# Altium footprint library Rotary_Encoder.PcbLib: 23 footprints (part 1 of 2)
Each footprint in its own frame and in the unit in brackets; x right, y up, seen from the top. Pads: shape width x height; smd on the part's side, far side on the other; paste and mask are expansions set on the pad; w line width, h text height; cw(c..) or ccw(c..) is an arc to the next point about the centre after c.
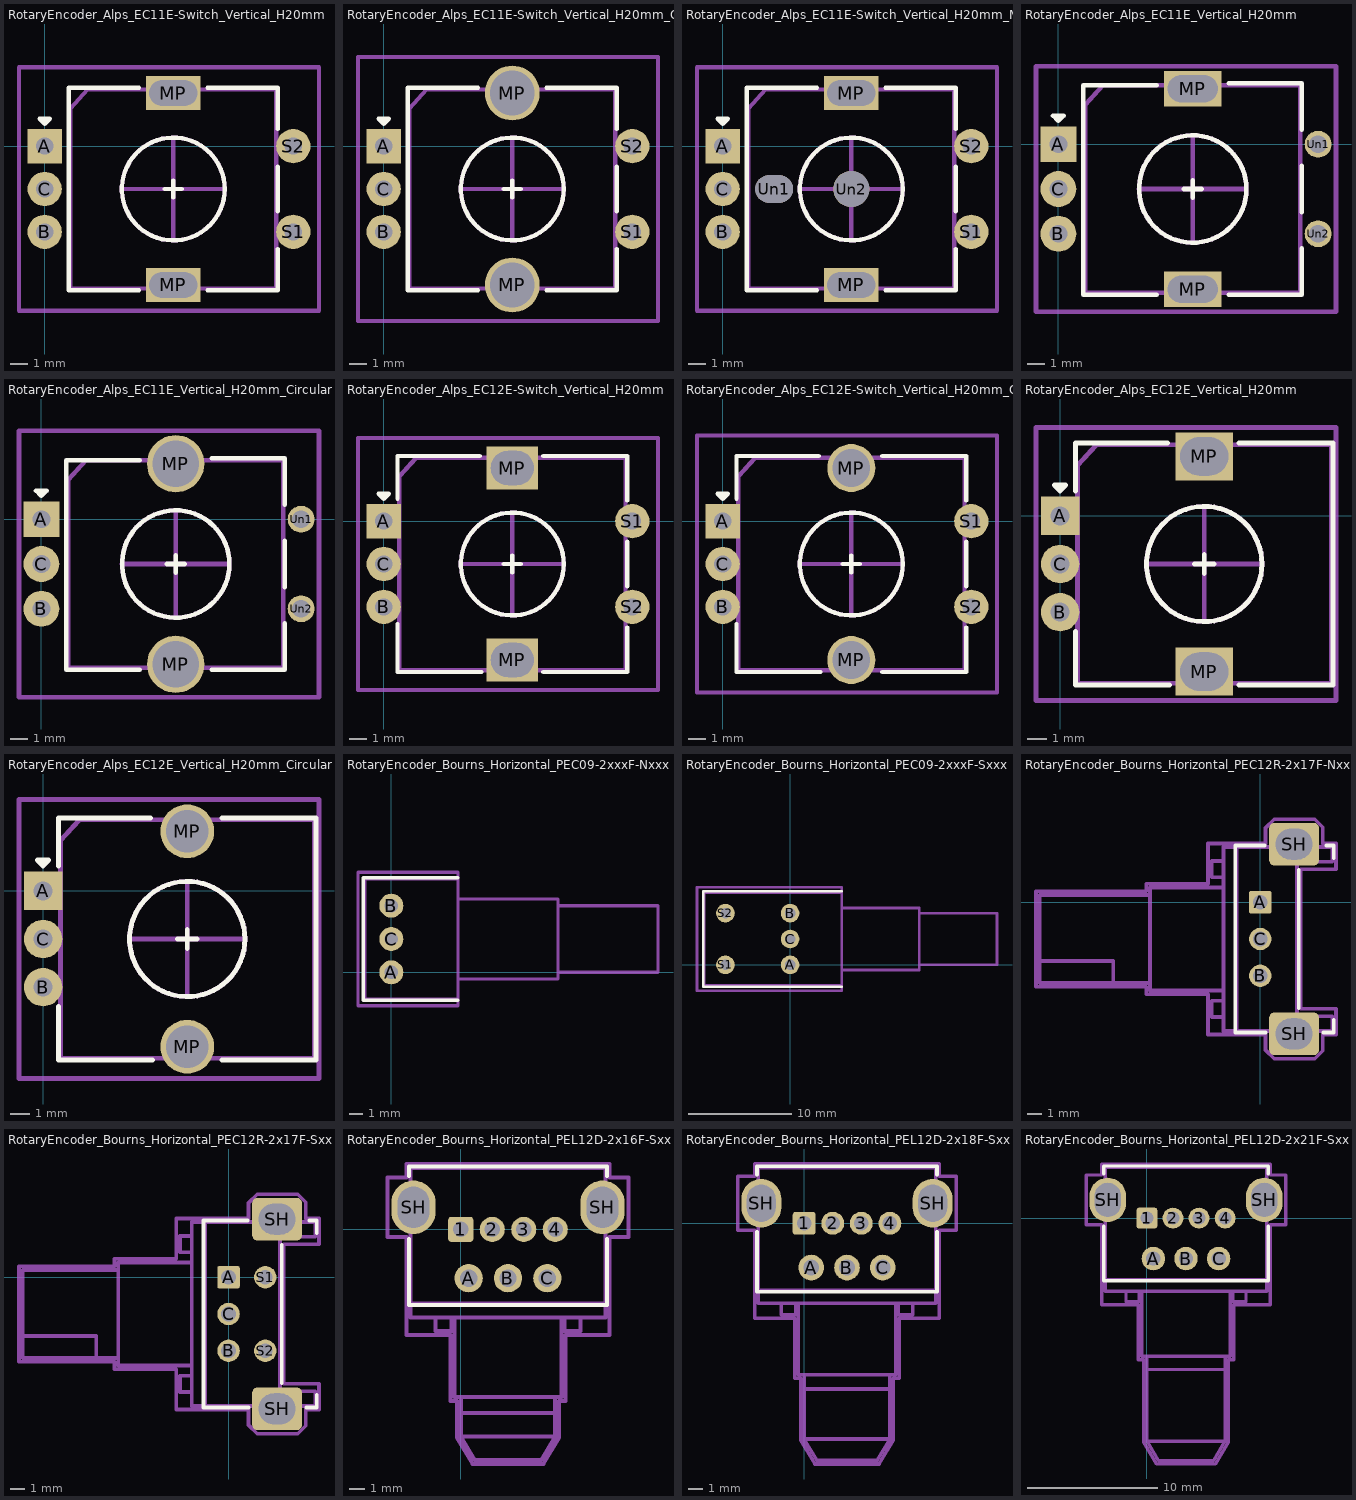
[diagram p0: the footprints below, top view; thin cyan lines are the x and y axes]

## RotaryEncoder_Alps_EC11E-Switch_Vertical_H20mm [mm]
pads (7):
  rect 2x2 hole 1: A(0,0)
  round 2 hole 1: B(0,-5) C(0,-2.5) S1(14.5,-5) S2(14.5,0)
  rect 3.2x2 hole 1.5 slot 2.8 at 0 deg: MP(7.5,-8.1) MP(7.5,3.1)
F.SilkS:
  circle w0.254: c7.5,-2.5 r3
  lines w0.254: 5.5,-8.4 1.4,-8.4 1.4,3.4 5.5,3.4 ; 7,-2.5 8,-2.5 ; 7.5,-3 7.5,-2 ; 9.5,-8.4 13.6,-8.4 13.6,-6 ; 9.5,3.4 13.6,3.4 13.6,1 ; 13.6,-3.8 13.6,-1.2 ; -0.3,1.6 0.3,1.6 0,1.3 -0.3,1.6
F.Fab:
  circle w0.254: c7.5,-2.5 r3
  lines w0.254: 4.5,-2.5 10.5,-2.5 ; 7.5,-5.5 7.5,0.5 ; 1.5,-8.3 1.5,2.2 2.5,3.3 13.5,3.3 13.5,-8.3 1.5,-8.3
  text "'.Designator'" at 7.053,-7.14 h1
F.CrtYd:
  lines w0.254: -1.5,-9.6 -1.5,4.6 16,4.6 16,-9.6 -1.5,-9.6

## RotaryEncoder_Alps_EC11E-Switch_Vertical_H20mm_CircularMountingHoles [mm]
pads (7):
  rect 2x2 hole 1: A(0,0)
  round 2 hole 1: B(0,-5) C(0,-2.5) S1(14.5,-5) S2(14.5,0)
  round 3.2 hole 2.6: MP(7.5,-8.1) MP(7.5,3.1)
F.SilkS:
  circle w0.254: c7.5,-2.5 r3
  lines w0.254: 5.5,-8.4 1.4,-8.4 1.4,3.4 5.5,3.4 ; 7,-2.5 8,-2.5 ; 7.5,-3 7.5,-2 ; 9.5,-8.4 13.6,-8.4 13.6,-6 ; 9.5,3.4 13.6,3.4 13.6,1 ; 13.6,-3.8 13.6,-1.2 ; -0.3,1.6 0.3,1.6 0,1.3 -0.3,1.6
F.Fab:
  circle w0.254: c7.5,-2.5 r3
  lines w0.254: 4.5,-2.5 10.5,-2.5 ; 7.5,-5.5 7.5,0.5 ; 1.5,-8.3 1.5,2.2 2.5,3.3 13.5,3.3 13.5,-8.3 1.5,-8.3
  text "'.Designator'" at 7.053,-7.14 h1
F.CrtYd:
  lines w0.254: -1.5,-10.2 -1.5,5.2 16,5.2 16,-10.2 -1.5,-10.2

## RotaryEncoder_Alps_EC11E-Switch_Vertical_H20mm_MountingHoles [mm]
pads (9):
  rect 2x2 hole 1: A(0,0)
  round 2 hole 1: B(0,-5) C(0,-2.5) S1(14.5,-5) S2(14.5,0)
  rect 3.2x2 hole 1.5 slot 2.8 at 0 deg: MP(7.5,-8.1) MP(7.5,3.1)
  rrect100% 2.2x1.6 hole 1.6 slot 2.2 at 0 deg: Un1(3,-2.5)
  round 2.1 hole 2.1: Un2(7.5,-2.5)
F.SilkS:
  circle w0.254: c7.5,-2.5 r3
  lines w0.254: 5.5,-8.4 1.4,-8.4 1.4,3.4 5.5,3.4 ; 9.5,-8.4 13.6,-8.4 13.6,-6 ; 9.5,3.4 13.6,3.4 13.6,1 ; 13.6,-3.8 13.6,-1.2 ; -0.3,1.6 0.3,1.6 0,1.3 -0.3,1.6
F.Fab:
  circle w0.254: c7.5,-2.5 r3
  lines w0.254: 4.5,-2.5 10.5,-2.5 ; 7.5,-5.5 7.5,0.5 ; 1.5,-8.3 1.5,2.2 2.5,3.3 13.5,3.3 13.5,-8.3 1.5,-8.3
  text "'.Designator'" at 7.053,-7.14 h1
F.CrtYd:
  lines w0.254: -1.5,-9.6 -1.5,4.6 16,4.6 16,-9.6 -1.5,-9.6

## RotaryEncoder_Alps_EC11E_Vertical_H20mm [mm]
pads (7):
  rect 2x2 hole 1: A(0,0)
  round 2 hole 1: B(0,-5) C(0,-2.5)
  rect 3.2x2 hole 1.5 slot 2.8 at 0 deg: MP(7.5,-8.1) MP(7.5,3.1)
  round 1.5 hole 1: Un1(14.5,0) Un2(14.5,-5)
F.SilkS:
  circle w0.254: c7.5,-2.5 r3
  lines w0.254: 5.5,-8.4 1.4,-8.4 1.4,3.3 5.5,3.3 ; 7,-2.5 8,-2.5 ; 7.5,-3 7.5,-2 ; 9.5,-8.4 13.6,-8.4 13.6,-5.8 ; 9.5,3.4 13.6,3.4 13.6,0.8 ; 13.6,-3.8 13.6,-1.2 ; -0.3,1.6 0.3,1.6 0,1.3 -0.3,1.6
F.Fab:
  circle w0.254: c7.5,-2.5 r3
  lines w0.254: 4.5,-2.5 10.5,-2.5 ; 7.5,-5.5 7.5,0.5 ; 1.5,-8.3 1.5,2.2 2.5,3.3 13.5,3.3 13.5,-8.3 1.5,-8.3
  text "'.Designator'" at 7.053,-7.14 h1
F.CrtYd:
  lines w0.254: -1.25,-9.35 -1.25,4.35 15.5,4.35 15.5,-9.35 -1.25,-9.35

## RotaryEncoder_Alps_EC11E_Vertical_H20mm_CircularMountingHoles [mm]
pads (7):
  rect 2x2 hole 1: A(0,0)
  round 2 hole 1: B(0,-5) C(0,-2.5)
  round 3.2 hole 2.6: MP(7.5,-8.1) MP(7.5,3.1)
  round 1.5 hole 1: Un1(14.5,0) Un2(14.5,-5)
F.SilkS:
  circle w0.254: c7.5,-2.5 r3
  lines w0.254: 5.5,-8.4 1.4,-8.4 1.4,3.3 5.5,3.3 ; 7,-2.5 8,-2.5 ; 7.5,-3 7.5,-2 ; 9.5,-8.4 13.6,-8.4 13.6,-5.8 ; 9.5,3.4 13.6,3.4 13.6,0.8 ; 13.6,-3.8 13.6,-1.2 ; -0.3,1.6 0.3,1.6 0,1.3 -0.3,1.6
F.Fab:
  circle w0.254: c7.5,-2.5 r3
  lines w0.254: 4.5,-2.5 10.5,-2.5 ; 7.5,-5.5 7.5,0.5 ; 1.5,-8.3 1.5,2.2 2.5,3.3 13.5,3.3 13.5,-8.3 1.5,-8.3
  text "'.Designator'" at 7.053,-7.14 h1
F.CrtYd:
  lines w0.254: -1.25,-9.95 -1.25,4.95 15.5,4.95 15.5,-9.95 -1.25,-9.95

## RotaryEncoder_Alps_EC12E-Switch_Vertical_H20mm [mm]
pads (7):
  rect 2x2 hole 1: A(0,0)
  round 2 hole 1: B(0,-5) C(0,-2.5) S1(14.5,0) S2(14.5,-5)
  rect 3x2.5 hole 2 slot 2.5 at 0 deg: MP(7.5,-8.1) MP(7.5,3.1)
F.SilkS:
  circle w0.254: c7.5,-2.5 r3
  lines w0.254: 0.8,-6 0.8,-8.8 5.7,-8.8 ; 0.8,1.3 0.8,3.8 5.6,3.8 ; 7,-2.5 8,-2.5 ; 7.5,-3 7.5,-2 ; 9.3,-8.8 14.2,-8.8 14.2,-6.2 ; 9.3,3.8 14.2,3.8 14.2,1.2 ; 14.2,-3.8 14.2,-1.2 ; -0.3,1.6 0.3,1.6 0,1.3 -0.3,1.6
F.Fab:
  circle w0.254: c7.5,-2.5 r3
  lines w0.254: 4.5,-2.5 10.5,-2.5 ; 7.5,-5.5 7.5,0.5 ; 0.9,-8.7 0.9,2.6 1.9,3.7 14.1,3.7 14.1,-8.7 0.9,-8.7
  text "'.Designator'" at 7.453,-7.44 h1
F.CrtYd:
  lines w0.254: -1.5,-9.85 -1.5,4.85 16,4.85 16,-9.85 -1.5,-9.85

## RotaryEncoder_Alps_EC12E-Switch_Vertical_H20mm_CircularMountingHoles [mm]
pads (7):
  rect 2x2 hole 1: A(0,0)
  round 2 hole 1: B(0,-5) C(0,-2.5) S1(14.5,0) S2(14.5,-5)
  round 2.8 hole 2.2: MP(7.5,-8.1) MP(7.5,3.1)
F.SilkS:
  circle w0.254: c7.5,-2.5 r3
  lines w0.254: 0.8,-6 0.8,-8.8 5.7,-8.8 ; 0.8,1.3 0.8,3.8 5.6,3.8 ; 7,-2.5 8,-2.5 ; 7.5,-3 7.5,-2 ; 9.3,-8.8 14.2,-8.8 14.2,-6.2 ; 9.3,3.8 14.2,3.8 14.2,1.2 ; 14.2,-3.8 14.2,-1.2 ; -0.3,1.6 0.3,1.6 0,1.3 -0.3,1.6
F.Fab:
  circle w0.254: c7.5,-2.5 r3
  lines w0.254: 4.5,-2.5 10.5,-2.5 ; 7.5,-5.5 7.5,0.5 ; 0.9,-8.7 0.9,2.6 1.9,3.7 14.1,3.7 14.1,-8.7 0.9,-8.7
  text "'.Designator'" at 7.453,-7.44 h1
F.CrtYd:
  lines w0.254: -1.5,-10 -1.5,5 16,5 16,-10 -1.5,-10

## RotaryEncoder_Alps_EC12E_Vertical_H20mm [mm]
pads (5):
  rect 2x2 hole 1: A(0,0)
  round 2 hole 1: B(0,-5) C(0,-2.5)
  rect 3x2.5 hole 2 slot 2.5 at 0 deg: MP(7.5,-8.1) MP(7.5,3.1)
F.SilkS:
  circle w0.254: c7.5,-2.5 r3
  lines w0.254: 0.8,-6 0.8,-8.8 5.7,-8.8 ; 0.8,1.3 0.8,3.8 5.6,3.8 ; 7,-2.5 8,-2.5 ; 7.5,-3 7.5,-2 ; 9.3,-8.8 14.2,-8.8 14.2,3.8 9.3,3.8 ; -0.3,1.6 0.3,1.6 0,1.3 -0.3,1.6
F.Fab:
  circle w0.254: c7.5,-2.5 r3
  lines w0.254: 4.5,-2.5 10.5,-2.5 ; 7.5,-5.5 7.5,0.5 ; 0.9,-8.7 0.9,2.6 1.9,3.7 14.1,3.7 14.1,-8.7 0.9,-8.7
  text "'.Designator'" at 7.453,-7.44 h1
F.CrtYd:
  lines w0.254: -1.25,-9.6 -1.25,4.6 14.35,4.6 14.35,-9.6 -1.25,-9.6

## RotaryEncoder_Alps_EC12E_Vertical_H20mm_CircularMountingHoles [mm]
pads (5):
  rect 2x2 hole 1: A(0,0)
  round 2 hole 1: B(0,-5) C(0,-2.5)
  round 2.8 hole 2.2: MP(7.5,-8.1) MP(7.5,3.1)
F.SilkS:
  circle w0.254: c7.5,-2.5 r3
  lines w0.254: 0.8,-6 0.8,-8.8 5.7,-8.8 ; 0.8,1.3 0.8,3.8 5.6,3.8 ; 7,-2.5 8,-2.5 ; 7.5,-3 7.5,-2 ; 9.3,-8.8 14.2,-8.8 14.2,3.8 9.3,3.8 ; -0.3,1.6 0.3,1.6 0,1.3 -0.3,1.6
F.Fab:
  circle w0.254: c7.5,-2.5 r3
  lines w0.254: 4.5,-2.5 10.5,-2.5 ; 7.5,-5.5 7.5,0.5 ; 0.9,-8.7 0.9,2.6 1.9,3.7 14.1,3.7 14.1,-8.7 0.9,-8.7
  text "'.Designator'" at 7.453,-7.44 h1
F.CrtYd:
  lines w0.254: -1.25,-9.75 -1.25,4.75 14.35,4.75 14.35,-9.75 -1.25,-9.75

## RotaryEncoder_Bourns_Horizontal_PEC09-2xxxF-Nxxxx [mm]
pads (3):
  round 1.8 hole 1: A(0,0) B(0,5) C(0,2.5)
F.SilkS:
  lines w0.254: 5,-2.1 -2.1,-2.1 -2.1,7.1 5,7.1
F.Fab:
  lines w0.254: 5,-0.5 12.5,-0.5 12.5,5.5 5,5.5 ; 12.5,0 20,0 20,5 12.5,5 ; -2,-2 -2,7 5,7 5,-2 -2,-2
  text "'.Designator'" at 2.84,-1.547 h1
F.CrtYd:
  lines w0.254: -2.5,-2.5 -2.5,7.5 5,7.5 5,-2.5 -2.5,-2.5

## RotaryEncoder_Bourns_Horizontal_PEC09-2xxxF-Sxxxx [mm]
pads (5):
  round 1.8 hole 1: A(0,0) B(0,5) C(0,2.5) S1(-6.25,0) S2(-6.25,5)
F.SilkS:
  lines w0.254: 5,-2.1 -8.4,-2.1 -8.4,7.1 5,7.1
F.Fab:
  lines w0.254: 5,-0.5 12.5,-0.5 12.5,5.5 5,5.5 ; 12.5,0 20,0 20,5 12.5,5 ; -8.3,-2 -8.3,7 5,7 5,-2 -8.3,-2
  text "'.Designator'" at 2.84,-1.547 h1
F.CrtYd:
  lines w0.254: -9,-2.5 -9,7.5 5,7.5 5,-2.5 -9,-2.5

## RotaryEncoder_Bourns_Horizontal_PEC12R-2x17F-Nxxxx [mm]
pads (5):
  rrect16% 1.524x1.524 hole 1: A(0,0)
  round 1.524 hole 1: B(0,-5) C(0,-2.5)
  rrect25% 3.4x2.9 hole 2.1 slot 2.5 at 0 deg: SH(2.3,-8.95) SH(2.3,3.95)
F.SilkS:
  lines w0.254: 0.3,3.85 -1.7,3.85 -1.7,-8.85 0.35,-8.85 ; 2.61,-7.2 2.61,2.2 ; 4.3,-8.85 5,-8.85 5,-8 ; 4.5,3.85 5,3.85 5,3
F.Fab:
  lines w0.254: -15,-4 -10,-4 -10,-5.5 ; -7.5,-5.5 -15,-5.5 -15,0.5 -7.5,0.5 ; -2.5,-7.8 -3.3,-7.8 -3.3,-6.7 -2.5,-6.7 ; -2.5,-6 -7.5,-6 -7.5,1 -2.5,1 ; -2.5,1.7 -3.3,1.7 -3.3,2.8 -2.5,2.8 ; -1.6,-8.75 -1.6,3.75 ; 4.9,3.7 4.9,2.75 2.5,2.75 2.5,-7.75 4.9,-7.75 4.9,-8.75 -2.5,-8.75 -2.5,3.75 4.9,3.75
  text "'.Designator'" at 0.79,-6.547 h1
F.CrtYd:
  lines w0.254: -15.25,-5.75 -15.25,0.75 -7.75,0.75 -7.75,1.25 -3.55,1.25 -3.55,4 0.35,4 0.35,5.05 0.95,5.65 3.7,5.65 4.25,5.1 4.25,4 5.15,4 5.15,2.25 2.75,2.25 2.75,-7.25 5.15,-7.25 5.15,-9 4.25,-9 4.25,-10.1 3.7,-10.65 0.95,-10.65 0.35,-10.05 0.35,-9 -3.55,-9 -3.55,-6.25 -7.75,-6.25 -7.75,-5.75 -15.25,-5.75

## RotaryEncoder_Bourns_Horizontal_PEC12R-2x17F-Sxxxx [mm]
pads (7):
  rrect16% 1.524x1.524 hole 1: A(0,0)
  round 1.524 hole 1: B(0,-5) C(0,-2.5) S1(2.5,0) S2(2.5,-5)
  rrect25% 3.4x2.9 hole 2.1 slot 2.5 at 0 deg: SH(3.3,-8.95) SH(3.3,3.95)
F.SilkS:
  lines w0.254: 1.3,3.85 -1.7,3.85 -1.7,-8.85 1.35,-8.85 ; 3.61,-7.2 3.61,2.2 ; 5.3,-8.85 6,-8.85 6,-8 ; 5.5,3.85 6,3.85 6,3
F.Fab:
  lines w0.254: -14,-4 -9,-4 -9,-5.5 ; -7.5,-5.5 -14,-5.5 -14,0.5 -7.5,0.5 ; -2.5,-7.8 -3.3,-7.8 -3.3,-6.7 -2.5,-6.7 ; -2.5,-6 -7.5,-6 -7.5,1 -2.5,1 ; -2.5,1.7 -3.3,1.7 -3.3,2.8 -2.5,2.8 ; -1.6,-8.75 -1.6,3.75 ; 5.9,3.7 5.9,2.75 3.5,2.75 3.5,-7.75 5.9,-7.75 5.9,-8.75 -2.5,-8.75 -2.5,3.75 5.9,3.75
  text "'.Designator'" at 1.79,-6.547 h1
F.CrtYd:
  lines w0.254: -14.25,-5.75 -14.25,0.75 -7.75,0.75 -7.75,1.25 -3.55,1.25 -3.55,4 1.35,4 1.35,5.05 1.95,5.65 4.7,5.65 5.25,5.1 5.25,4 6.15,4 6.15,2.25 3.75,2.25 3.75,-7.25 6.15,-7.25 6.15,-9 5.25,-9 5.25,-10.1 4.7,-10.65 1.95,-10.65 1.35,-10.05 1.35,-9 -3.55,-9 -3.55,-6.25 -7.75,-6.25 -7.75,-5.75 -14.25,-5.75

## RotaryEncoder_Bourns_Horizontal_PEL12D-2x16F-Sxxxx [mm]
pads (9):
  rrect25% 1.6x1.6 hole 1: 1(0,0)
  round 1.6 hole 1: 2(2,0) 3(4,0) 4(6,0)
  round 1.8 hole 1.1: A(0.5,-3.1) B(3,-3.1) C(5.5,-3.1)
  rrect100% 2.8x3.4 hole 2 slot 2.6 at 90 deg: SH(-3,1.4) SH(9,1.4)
F.SilkS:
  lines w0.254: -3.3,-0.6 -3.3,-4.8 9.3,-4.8 9.3,-0.6 ; -3.3,3.4 -3.3,4 9.3,4 9.3,3.4
F.Fab:
  lines w0.254: -3.2,-4.7 9.2,-4.7 ; -1.6,-5.65 -1.6,-6.45 -0.6,-6.45 -0.6,-5.65 ; -0.4,-5.65 -0.4,-10.65 6.4,-10.65 6.4,-5.65 ; 0,-11.65 6,-11.65 ; 0,-10.65 0,-13.15 ; 6,-10.65 6,-13.15 ; 6.6,-5.65 6.6,-6.45 7.6,-6.45 7.6,-5.65 ; 0,-13.15 0.9,-14.65 5.1,-14.65 6,-13.15 ; 0,-13.15 6,-13.15 ; -3.2,-5.6 -3.2,3.9 9.2,3.9 9.2,-5.6 -3.2,-5.6
  text "'.Designator'" at -1.047,0.46 h1
F.CrtYd:
  lines w0.254: -4.65,-0.5 -4.65,3.3 -3.45,3.3 -3.45,4.15 9.45,4.15 9.45,3.3 10.65,3.3 10.65,-0.5 9.45,-0.5 9.45,-6.7 6.65,-6.7 6.65,-10.9 6.25,-10.9 6.25,-13.2 5.25,-14.9 0.75,-14.9 -0.25,-13.2 -0.25,-10.9 -0.65,-10.9 -0.65,-6.7 -3.45,-6.7 -3.45,-0.5 -4.65,-0.5

## RotaryEncoder_Bourns_Horizontal_PEL12D-2x18F-Sxxxx [mm]
pads (9):
  rrect25% 1.6x1.6 hole 1: 1(0,0)
  round 1.6 hole 1: 2(2,0) 3(4,0) 4(6,0)
  round 1.8 hole 1.1: A(0.5,-3.1) B(3,-3.1) C(5.5,-3.1)
  rrect100% 2.8x3.4 hole 2 slot 2.6 at 90 deg: SH(-3,1.4) SH(9,1.4)
F.SilkS:
  lines w0.254: -3.3,-0.6 -3.3,-4.8 9.3,-4.8 9.3,-0.6 ; -3.3,3.4 -3.3,4 9.3,4 9.3,3.4
F.Fab:
  lines w0.254: -3.2,-4.7 9.2,-4.7 ; -1.6,-5.6 -1.6,-6.4 -0.6,-6.4 -0.6,-5.6 ; -0.4,-5.6 -0.4,-10.6 6.4,-10.6 6.4,-5.6 ; 0,-11.6 6,-11.6 ; 0,-10.6 0,-15.1 ; 6,-10.6 6,-15.1 ; 6.6,-5.6 6.6,-6.4 7.6,-6.4 7.6,-5.6 ; 0,-15.1 0.9,-16.6 5.1,-16.6 6,-15.1 ; 0,-15.1 6,-15.1 ; -3.2,-5.6 -3.2,3.9 9.2,3.9 9.2,-5.6 -3.2,-5.6
  text "'.Designator'" at -1.047,0.46 h1
F.CrtYd:
  lines w0.254: -4.65,-0.5 -4.65,3.3 -3.45,3.3 -3.45,4.15 9.45,4.15 9.45,3.3 10.65,3.3 10.65,-0.5 9.45,-0.5 9.45,-6.65 6.65,-6.65 6.65,-10.85 6.25,-10.85 6.25,-15.15 5.25,-16.85 0.75,-16.85 -0.25,-15.15 -0.25,-10.85 -0.65,-10.85 -0.65,-6.65 -3.45,-6.65 -3.45,-0.5 -4.65,-0.5

## RotaryEncoder_Bourns_Horizontal_PEL12D-2x21F-Sxxxx [mm]
pads (9):
  rrect25% 1.6x1.6 hole 1: 1(0,0)
  round 1.6 hole 1: 2(2,0) 3(4,0) 4(6,0)
  round 1.8 hole 1.1: A(0.5,-3.1) B(3,-3.1) C(5.5,-3.1)
  rrect100% 2.8x3.4 hole 2 slot 2.6 at 90 deg: SH(-3,1.4) SH(9,1.4)
F.SilkS:
  lines w0.254: -3.3,-0.6 -3.3,-4.8 9.3,-4.8 9.3,-0.6 ; -3.3,3.4 -3.3,4 9.3,4 9.3,3.4
F.Fab:
  lines w0.254: -3.2,-4.7 9.2,-4.7 ; -1.6,-5.6 -1.6,-6.4 -0.6,-6.4 -0.6,-5.6 ; -0.4,-5.6 -0.4,-10.6 6.4,-10.6 6.4,-5.6 ; 0,-11.6 6,-11.6 ; 0,-10.6 0,-17.1 ; 6,-10.6 6,-17.1 ; 6.6,-5.6 6.6,-6.4 7.6,-6.4 7.6,-5.6 ; 0,-17.1 0.9,-18.6 5.1,-18.6 6,-17.1 ; 0,-17.1 6,-17.1 ; -3.2,-5.6 -3.2,3.9 9.2,3.9 9.2,-5.6 -3.2,-5.6
  text "'.Designator'" at -1.047,0.46 h1
F.CrtYd:
  lines w0.254: -4.65,-0.5 -4.65,3.3 -3.45,3.3 -3.45,4.15 9.45,4.15 9.45,3.3 10.65,3.3 10.65,-0.5 9.45,-0.5 9.45,-6.65 6.65,-6.65 6.65,-10.85 6.25,-10.85 6.25,-17.15 5.25,-18.85 0.75,-18.85 -0.25,-17.15 -0.25,-10.85 -0.65,-10.85 -0.65,-6.65 -3.45,-6.65 -3.45,-0.5 -4.65,-0.5